# Altium footprint library MJTP1230.PcbLib: 1 footprints
Each footprint in its own frame and in the unit in brackets; x right, y up, seen from the top. Pads: shape width x height; smd on the part's side, far side on the other; paste and mask are expansions set on the pad; w line width, h text height; cw(c..) or ccw(c..) is an arc to the next point about the centre after c.
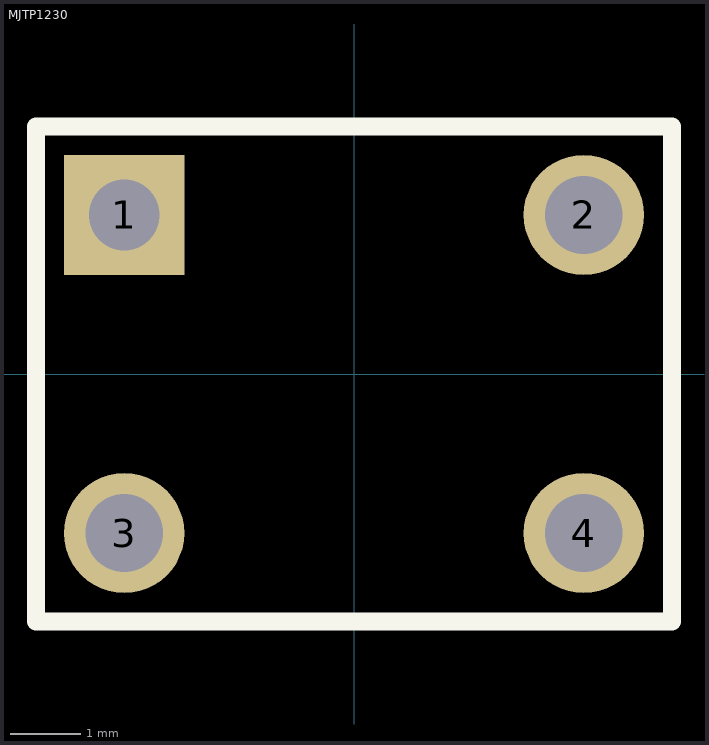
[diagram p0: the footprint, top view; thin cyan lines are the x and y axes]

## MJTP1230 [mm] "SPST Switch"
pads (4):
  rect 1.7x1.7 hole 1: 1(-3.25,2.25)
  round 1.7 hole 1.1: 2(3.25,2.25) 3(-3.25,-2.25) 4(3.25,-2.25)
Top Overlay:
  lines w0.254: -4.5,-3.5 4.5,-3.5 4.5,3.5 -4.5,3.5 -4.5,-3.5
3D body: height 2.15, standoff -2.15, extent -3.3,-2.6 -3,-1.9
3D body: height 2.15, standoff -2.15, extent -3.3,1.9 -3,2.6
3D body: height 2.15, standoff -2.15, extent 3,1.9 3.3,2.6
3D body: height 2.15, standoff -2.15, extent 3,-2.6 3.3,-1.9
3D body: height 4.8, standoff 4.3, extent -1.75,-1.75 1.75,1.75
3D body: height 4.3, standoff 0, extent -3,-3 3,3
3D body: height 4.3, standoff 0, extent -3.9,3.3 -3.9,3.3